# Altium schematic symbol library ucont.SchLib: 1 symbol
Pins are listed as number, name and electrical type; pins without a type are passive.

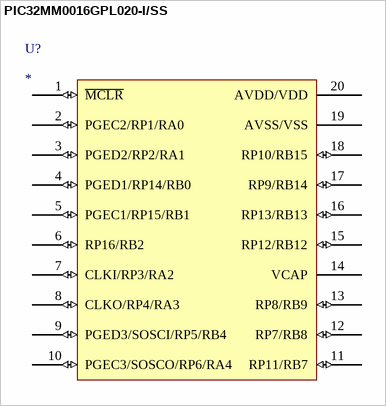
[diagram p0: symbol PIC32MM0016GPL020-I/SS]

## PIC32MM0016GPL020-I/SS
designator U?
MIPS32® microAptiv™ PIC® 32MM Microcontroller IC 32-Bit Single-Core 25MHz 16KB (16K x 8) FLASH 20-SSOP
footprint SOP65P780X200-20N (Footprint not found)
footprint SOP65P780X200-20N
pins: 1 ~{MCLR} (io), 2 PGEC2/RP1/RA0 (io), 3 PGED2/RP2/RA1 (io), 4 PGED1/RP14/RB0 (io), 5 PGEC1/RP15/RB1 (io), 6 RP16/RB2 (io), 7 CLKI/RP3/RA2 (io), 8 CLKO/RP4/RA3 (io), 9 PGED3/SOSCI/RP5/RB4 (io), 10 PGEC3/SOSCO/RP6/RA4 (io), 11 RP11/RB7 (io), 12 RP7/RB8 (io), 13 RP8/RB9 (io), 14 VCAP (power), 15 RP12/RB12 (io), 16 RP13/RB13 (io), 17 RP9/RB14 (io), 18 RP10/RB15 (io), 19 AVSS/VSS (power), 20 AVDD/VDD (power)